# Altium schematic symbol library KeetV2_1.SCHLIB: 76 symbols (part 2 of 2)
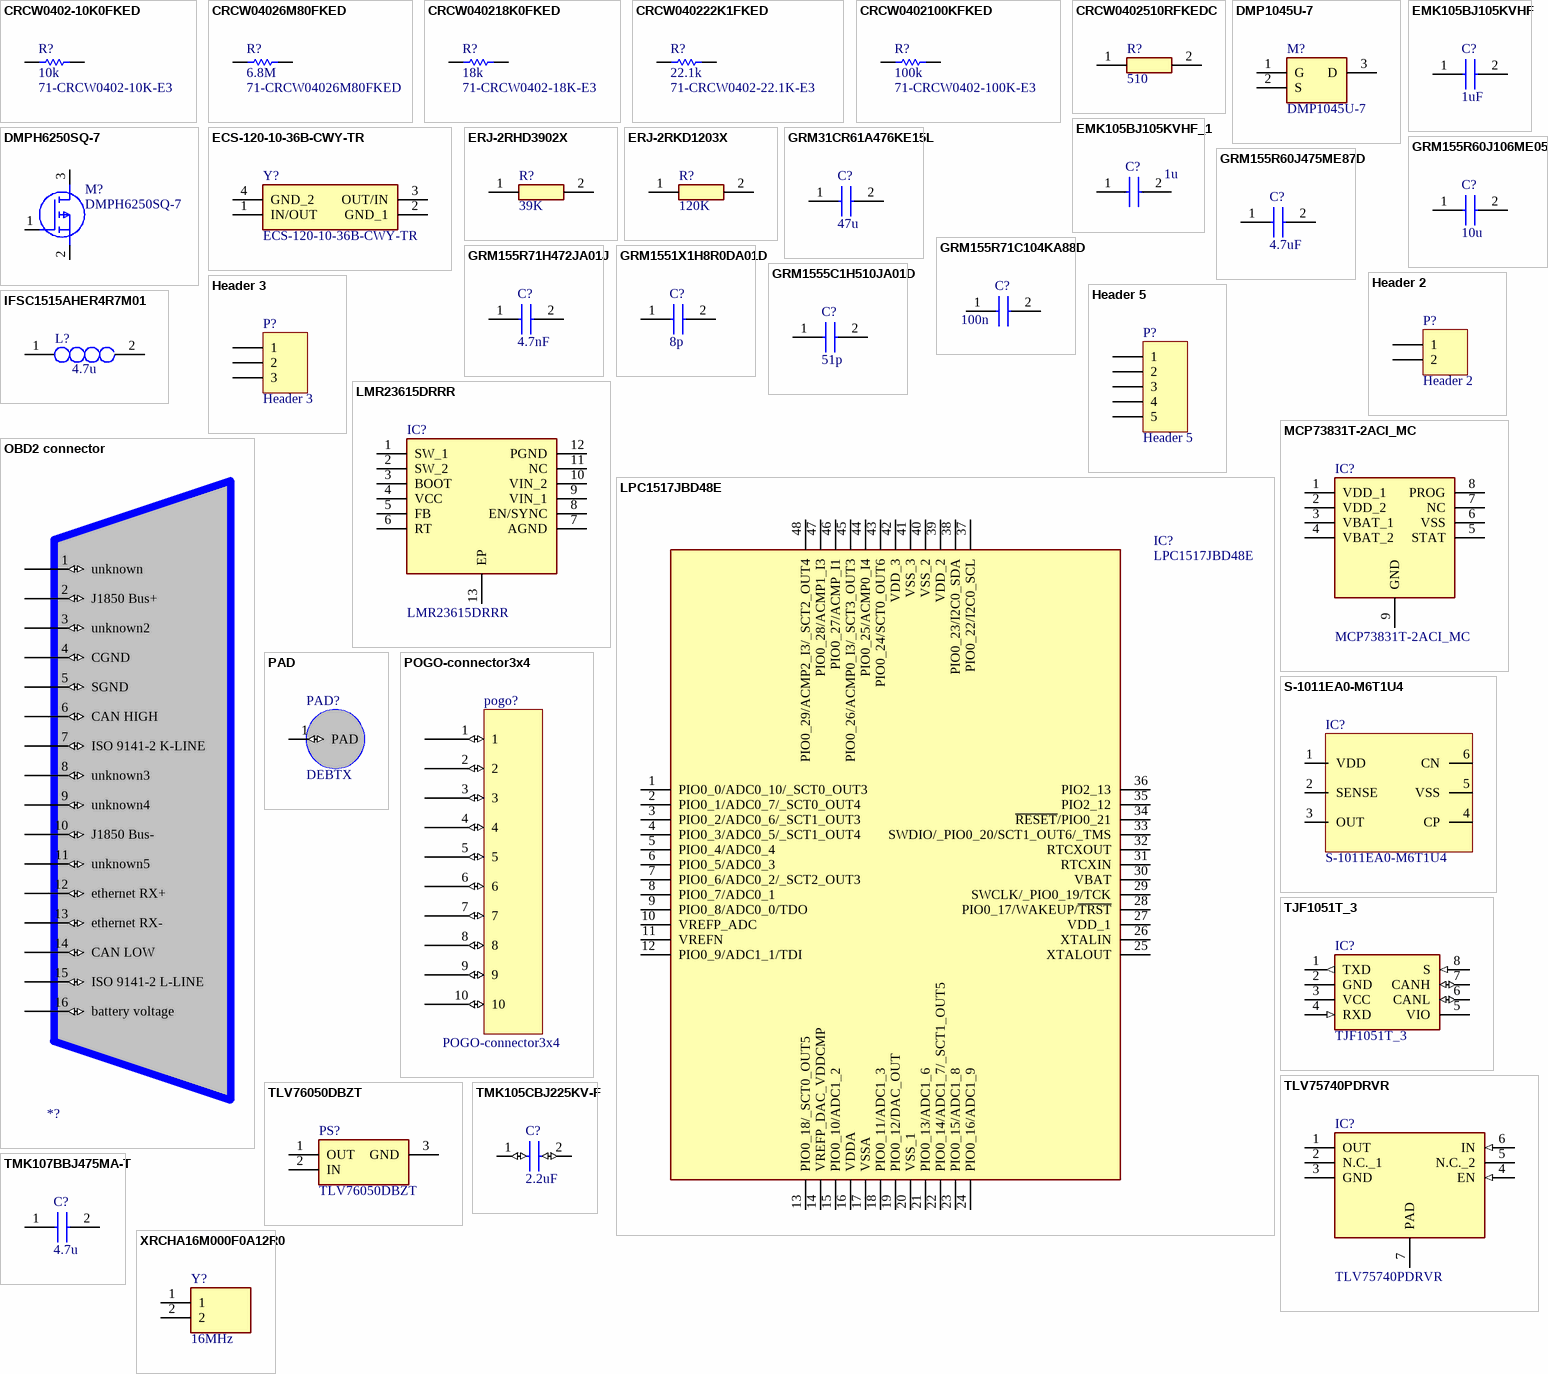
[diagram p2: symbols CRCW0402-10K0FKED to XRCHA16M000F0A12R0]

## CRCW0402100KFKED
designator R?, comment 100k  Supplier Part Number 1: 71-CRCW0402-100K-E3
Res Thick Film 0402 100K Ohm 1% 1/16W 100ppm/C Molded SMD Paper T/R; Manufacturer: Vishay; Manufacturer Part Number: CRCW0402100KFKED; Power Rating: 63mW; Resistance: 100kR; Temperature Coefficient: 100ppm/°C; Voltage Rating: 50V; Supplier 1: Mouser; RoHS: Yes; Category: Chip SMD Resistors; Stock 1: 350931; Pricing 1: 1=0,10000, 10=0,03300, 50=0,03300, 100=0,01400, 1000=0,00600, 10000=0,00500 (USD); Mount: Surface Mount; Case/Package: 0402; Number of Pins: 2; Contact Plating: Tin; Weight: 2.3E-05oz; Case Code (Metric): 1005; Case Code (Imperial): 0402; Size Code: 0402; Min Operating Temperature: -55°C; Max Operating Temperature: 155°C; Tolerance: 1%; Resistor Type: Thick Film; Termination: SMD/SMT; Packaging: Tape and Reel; Package Quantity: 10000; Number of Terminations: 2; Max Power Dissipation: 63mW; Voltage Rating (DC): 50V; Features: Automotive AEC-Q200; Series: CRCW; Technology: THICK FILM; Construction: Rectangular; Resistance Tolerance: 1%; Length: 1mm; Width: 0.02inch; Height: 0.35mm; Depth: 0.5mm; Radiation Hardening: No; Lead Free: Lead Free; RoHS Compliant: Yes; REACH SVHC: Unknown; Military Standard: Not; ComponentLink1URL: https://datasheet.ciiva.com/11810/0900766b80d98824-11810752.pdf?src-supplier=RSComponents; ComponentLink1Description: https://datasheet.ciiva.com/11810/0900766b80d98824-11810752.pdf?src-supplier=RSComponents; ComponentLink2URL: https://datasheet.ciiva.com/26316/fld-crcw-e3-data-en-26316630.pdf?src-supplier=Distrelec; ComponentLink2Description: https://datasheet.ciiva.com/26316/fld-crcw-e3-data-en-26316630.pdf?src-supplier=Distrelec; ComponentLink3URL: https://datasheet.ciiva.com/2463/dcrcwe3-2463064.pdf?src-supplier=Digi-Key; ComponentLink3Description: https://datasheet.ciiva.com/2463/dcrcwe3-2463064.pdf?src-supplier=Digi-Key; ComponentLink4URL: https://datasheet.ciiva.com/2463/dcrcwe3-2463065.pdf?src-supplier=Digi-Key; ComponentLink4Description: https://datasheet.ciiva.com/2463/dcrcwe3-2463065.pdf?src-supplier=Digi-Key; ComponentLink5URL: https://datasheet.ciiva.com/16776/70201119-16776281.pdf?src-supplier=Allied+Electronics; ComponentLink5Description: https://datasheet.ciiva.com/16776/70201119-16776281.pdf?src-supplier=Allied+Electronics; ComponentLink6URL: https://datasheet.ciiva.com/16941/dcrcwe3-16941129.pdf?src-supplier=Avnet+Europe; ComponentLink6Description: https://datasheet.ciiva.com/16941/dcrcwe3-16941129.pdf?src-supplier=Avnet+Europe; ComponentLink7URL: https://datasheet.ciiva.com/2463/dcrcwe3-2463066.pdf?src-supplier=Digi-Key; ComponentLink7Description: https://datasheet.ciiva.com/2463/dcrcwe3-2463066.pdf?src-supplier=Digi-Key; ComponentLink8URL: https://datasheet.ciiva.com/3255/dcrcwe3-3255947.pdf?src-supplier=Avnet; ComponentLink8Description: https://datasheet.ciiva.com/3255/dcrcwe3-3255947.pdf?src-supplier=Avnet; ComponentLink9URL: https://datasheet.ciiva.com/3255/dcrcwe3-3255948.pdf?src-supplier=Avnet; ComponentLink9Description: https://datasheet.ciiva.com/3255/dcrcwe3-3255948.pdf?src-supplier=Avnet; ComponentLink10URL: https://datasheet.ciiva.com/16208/dcrcwe3-16208508.pdf?src-supplier=Future+Electronics; ComponentLink10Description: https://datasheet.ciiva.com/16208/dcrcwe3-16208508.pdf?src-supplier=Future+Electronics; ComponentLink11URL: https://datasheet.ciiva.com/5546/dcrcwe3-109170-5546638.pdf?src-supplier=Mouser; ComponentLink11Description: https://datasheet.ciiva.com/5546/dcrcwe3-109170-5546638.pdf?src-supplier=Mouser; ComponentLink12URL: https://datasheet.ciiva.com/46441/1720486-46441598.pdf?src-supplier=Element14; ComponentLink12Description: https://datasheet.ciiva.com/46441/1720486-46441598.pdf?src-supplier=Element14
footprint RESC1005X04N (Chip Resistor, 0402, 2-Leads, Body 1,00x0,50mm, IPC Medium Density)
pins: 1, 2

## CRCW0402510RFKEDC
designator R?, comment 510
Resistor; Manufacturer_Name: Vishay; Manufacturer_Part_Number: CRCW0402510RFKEDC; Datasheet Link: https://componentsearchengine.com/Datasheets/1/CRCW0402510RFKEDC.pdf; Height: 0.35mm; Mouser Part Number: 71-CRCW0402510RFKEDC; Mouser Price/Stock: https://www.mouser.com/Search/Refine.aspx?Keyword=71-CRCW0402510RFKEDC; Arrow Part Number: CRCW0402510RFKEDC; Arrow Price/Stock: https://www.arrow.com/en/products/crcw0402510rfkedc/vishay
footprint RESC1005X35N
pins: 1, 2

## DMP1045U-7
designator M?
Integrated Circuit; Manufacturer_Name: Diodes Inc.; Datasheet Link: http://docs-emea.rs-online.com/webdocs/1325/0900766b813253b4.pdf; Height: 1.2mm; Manufacturer_Part_Number: DMP1045U-7; Arrow Part Number: DMP1045U-7; Arrow Price/Stock: https://www.arrow.com/en/products/dmp1045u-7/diodes-incorporated; Mouser Part Number: 621-DMP1045U-7; Mouser Price/Stock: https://www.mouser.co.uk/ProductDetail/Diodes-Incorporated/DMP1045U-7?qs=T%2FOtf55vL7eEKnIWhgMvTQ%3D%3D
footprint SOT96P240X120-3N
pins: 1 G, 2 S, 3 D

## DMPH6250SQ-7
designator M?
MOSFET (P-Channel); Manufacturer_Name: Diodes Inc.; Datasheet Link: https://www.diodes.com/assets/Datasheets/DMPH6250SQ.pdf; Height: 1.1mm; Manufacturer_Part_Number: DMPH6250SQ-7; Arrow Part Number: DMPH6250SQ-7; Arrow Price/Stock: https://www.arrow.com/en/products/dmph6250sq-7/diodes-incorporated; Mouser Part Number: 621-DMPH6250SQ-7; Mouser Price/Stock: https://www.mouser.co.uk/ProductDetail/Diodes-Incorporated/DMPH6250SQ-7?qs=%252BEew9%252B0nqrDz2S8tY0%252BBKg%3D%3D
footprint SOT96P240X110-3N
pins: 1 G, 2 S, 3 D

## ECS-120-10-36B-CWY-TR
designator Y?
Crystal or Oscillator; Manufacturer_Name: ECS; Datasheet Link: https://componentsearchengine.com/Datasheets/1/ECS-120-10-36B-CWY-TR.pdf; Height: 0.65mm; Manufacturer_Part_Number: ECS-120-10-36B-CWY-TR; Mouser Part Number: 520-120-10-36B-CWYT; Mouser Price/Stock: https://www.mouser.co.uk/ProductDetail/ECS/ECS-120-10-36B-CWY-TR/?qs=l4Gc20tDgJKvLBYLYNYQdg%3D%3D
footprint ECS1201036BCWYTR
pins: 1 IN/OUT, 2 GND_1, 3 OUT/IN, 4 GND_2

## EMK105BJ105KVHF
designator C?, comment 1uF
Capacitor X5R 10% 0402; Manufacturer_Name: TAIYO YUDEN; Manufacturer_Part_Number: EMK105BJ105KVHF; Datasheet Link: https://componentsearchengine.com/Datasheets/2/EMK105BJ105KVHF.pdf; Height: 0.55mm; Mouser Part Number: 963-EMK105BJ105KVHF; Mouser Price/Stock: https://www.mouser.co.uk/ProductDetail/Taiyo-Yuden/EMK105BJ105KVHF?qs=qPaGMJUC%252BSsQbatR4qRfmg%3D%3D
footprint CAPC1005X55N
pins: 1, 2

## EMK105BJ105KVHF_1
designator C?, comment 1u
Capacitor; Manufacturer_Name: TAIYO YUDEN; Manufacturer_Part_Number: EMK105BJ105KVHF; Datasheet Link: https://componentsearchengine.com/Datasheets/2/EMK105BJ105KVHF.pdf; Height: 0.55mm; Mouser Part Number: 963-EMK105BJ105KVHF; Mouser Price/Stock: https://www.mouser.co.uk/ProductDetail/Taiyo-Yuden/EMK105BJ105KVHF?qs=qPaGMJUC%252BSsQbatR4qRfmg%3D%3D
footprint CAPC1005X55N
pins: 1, 2

## ERJ-2RHD3902X
designator R?, comment 39K
Resistor; Manufacturer_Name: Panasonic; Manufacturer_Part_Number: ERJ-2RHD3902X; Datasheet Link: http://docs-europe.electrocomponents.com/webdocs/13ba/0900766b813ba21b.pdf; Height: 0.4mm; Mouser Part Number: 667-ERJ-2RHD3902X; Mouser Price/Stock: https://www.mouser.com/Search/Refine.aspx?Keyword=667-ERJ-2RHD3902X
footprint RESC1005X40N
pins: 1, 2

## ERJ-2RKD1203X
designator R?, comment 120K
Resistor; Manufacturer_Name: Panasonic; Manufacturer_Part_Number: ERJ-2RKD1203X; Datasheet Link: https://industrial.panasonic.com/cdbs/www-data/pdf/RDA0000/AOA0000C86.pdf; Height: 0.4mm
footprint RESC1005X40N
pins: 1, 2

## GRM31CR61A476KE15L
designator C?, comment 47u
Capacitor; Manufacturer_Name: Murata Electronics; Manufacturer_Part_Number: GRM31CR61A476KE15L; Datasheet Link: http://www.murata.com/~/media/webrenewal/support/library/catalog/products/capacitor/mlcc/c02e.pdf; Height: 1.8mm; Arrow Part Number: GRM31CR61A476KE15L; Arrow Price/Stock: https://www.arrow.com/en/products/grm31cr61a476ke15l/murata-manufacturing; Mouser Part Number: 81-GRM31CR61A476KE5L; Mouser Price/Stock: https://www.mouser.co.uk/ProductDetail/Murata-Electronics/GRM31CR61A476KE15L?qs=18WYLvqSxEpYiQEknw8A%2Fg%3D%3D
footprint CAPC3216X180N
pins: 1, 2

## GRM155R60J106ME05J
designator C?, comment 10u
Capacitor; Manufacturer_Name: Murata Electronics; Manufacturer_Part_Number: GRM155R60J106ME05J; Datasheet Link: https://psearch.en.murata.com/capacitor/product/GRM155R60J106ME05%23.html; Height: 0.55mm; Mouser Part Number: 81-GRM155R60J106ME05; Mouser Price/Stock: https://www.mouser.co.uk/ProductDetail/Murata-Electronics/GRM155R60J106ME05J?qs=d0WKAl%252BL4KZLYokHNDRa%252Bw%3D%3D
footprint CAPC1005X55N
pins: 1, 2

## GRM155R60J475ME87D
designator C?, comment 4.7uF
Capacitor; Manufacturer_Name: Murata Electronics; Manufacturer_Part_Number: GRM155R60J475ME87D; Datasheet Link: http://www.murata.com/~/media/webrenewal/support/library/catalog/products/capacitor/mlcc/c02e.pdf; Height: 0.55mm; Arrow Part Number: GRM155R60J475ME87D; Arrow Price/Stock: https://www.arrow.com/en/products/grm155r60j475me87d/murata-manufacturing; Mouser Part Number: 81-GRM155R60J475ME8D; Mouser Price/Stock: https://www.mouser.co.uk/ProductDetail/Murata-Electronics/GRM155R60J475ME87D/?qs=pTGEtN%252BMLlBnU9jM8bPB0Q%3D%3D
footprint CAPC1005X55N
pins: 1, 2

## GRM155R71C104KA88D
designator C?, comment 100n
Capacitor; Manufacturer_Name: Murata Electronics; Manufacturer_Part_Number: GRM155R71C104KA88D; Datasheet Link: http://www.murata.com/~/media/webrenewal/support/library/catalog/products/capacitor/mlcc/c02e.pdf; Height: 0.55mm; Arrow Part Number: GRM155R71C104KA88D; Arrow Price/Stock: https://www.arrow.com/en/products/grm155r71c104ka88d/murata-manufacturing; Mouser Part Number: N/A
footprint CAPC1005X55N
pins: 1, 2

## GRM155R71H472JA01J
designator C?, comment 4.7nF
Capacitor; Manufacturer_Name: Murata Electronics; Manufacturer_Part_Number: GRM155R71H472JA01J; Datasheet Link: http://www.murata.com/~/media/webrenewal/support/library/catalog/products/capacitor/mlcc/c02e.pdf; Height: 0.55mm; Mouser Part Number: 81-GRM155R71H472JA1J; Mouser Price/Stock: https://www.mouser.com/Search/Refine.aspx?Keyword=81-GRM155R71H472JA1J
footprint CAPC1005X55N
pins: 1, 2

## GRM1551X1H8R0DA01D
designator C?, comment 8p
Capacitor; Manufacturer_Name: Murata Electronics; Manufacturer_Part_Number: GRM1551X1H8R0DA01D; Datasheet Link: http://www.murata.com/~/media/webrenewal/support/library/catalog/products/capacitor/mlcc/c02e.pdf; Height: 0.55mm
footprint CAPC1005X55N
pins: 1, 2

## GRM1555C1H510JA01D
designator C?, comment 51p
Capacitor; Manufacturer_Name: Murata Electronics; Manufacturer_Part_Number: GRM1555C1H510JA01D; Datasheet Link: http://www.murata.com/~/media/webrenewal/support/library/catalog/products/capacitor/mlcc/c02e.pdf; Height: 0.55mm; Mouser Part Number: 81-GRM1555C1H510JA1D; Mouser Price/Stock: http://www.mouser.com/Search/ProductDetail.aspx?qs=ouTquLLW2S53SYZ4Zli0Dw%3d%3d
footprint CAPC1005X55N
pins: 1, 2

## Header 2
designator P?
Header, 2-Pin; LatestRevisionDate: 17-Jul-2002; LatestRevisionNote: Re-released for DXP Platform.; Publisher: Altium Limited
footprint HDR1X2 (Connector; Header; 2 Position)
signal-integrity model Connector
pins: 1, 2

## Header 3
designator P?
Header, 3-Pin; LatestRevisionDate: 17-Jul-2002; LatestRevisionNote: Re-released for DXP Platform.; Publisher: Altium Limited
footprint HDR1X3 (Connector; Header; 3 Position)
signal-integrity model Connector
pins: 1, 2, 3

## Header 5
designator P?
Header, 5-Pin; LatestRevisionDate: 17-Jul-2002; LatestRevisionNote: Re-released for DXP Platform.; Publisher: Altium Limited
footprint HDR1X5 (Connector; Header; 5 Position)
signal-integrity model Connector
pins: 1, 2, 3, 4, 5

## IFSC1515AHER4R7M01
designator L?, comment 4.7u
Inductor; Manufacturer_Name: Vishay; Manufacturer_Part_Number: IFSC1515AHER4R7M01; Datasheet Link: https://www.vishay.com/docs/34295/sc15ah01.pdf; Height: 1.9mm; Arrow Part Number: IFSC1515AHER4R7M01; Arrow Price/Stock: https://www.arrow.com/en/products/ifsc1515aher4r7m01/vishay; Mouser Part Number: 70-IFSC1515AHER4R7M0; Mouser Price/Stock: https://www.mouser.co.uk/ProductDetail/Vishay-Dale/IFSC1515AHER4R7M01?qs=InciI0EUQ9bFD1zWABQODQ%3D%3D
footprint INDPM4040X190N
pins: 1, 2

## LMR23615DRRR
designator IC?
Integrated Circuit; Manufacturer_Name: Texas Instruments; Datasheet Link: http://www.ti.com/lit/ds/symlink/lmr23615.pdf; Height: 0.8mm; Manufacturer_Part_Number: LMR23615DRRR; Arrow Part Number: LMR23615DRRR; Arrow Price/Stock: https://www.arrow.com/en/products/lmr23615drrr/texas-instruments; Mouser Part Number: 595-LMR23615DRRR; Mouser Price/Stock: https://www.mouser.co.uk/ProductDetail/Texas-Instruments/LMR23615DRRR?qs=fAHHVMwC%252BbjN885utBLFRg%3D%3D
footprint SON50P300X300X80-13N-D
pins: 1 SW_1, 2 SW_2, 3 BOOT, 4 VCC, 5 FB, 6 RT, 7 AGND, 8 EN/SYNC, 9 VIN_1, 10 VIN_2, 11 NC, 12 PGND, 13 EP

## LPC1517JBD48E
designator IC?
Integrated Circuit; Manufacturer_Name: NXP; Datasheet Link: http://www.nxp.com/docs/en/data-sheet/LPC15XX.pdf; Height: 1.6mm; Manufacturer_Part_Number: LPC1517JBD48E; Mouser Part Number: 771-LPC1517JBD48E; Mouser Price/Stock: https://www.mouser.co.uk/ProductDetail/NXP-Semiconductors/LPC1517JBD48E?qs=6JAMGB%252BEdkxpZtMKDH%2F6qg%3D%3D; Arrow Part Number: LPC1517JBD48E; Arrow Price/Stock: https://www.arrow.com/en/products/lpc1517jbd48e/nxp-semiconductors
footprint QFP50P900X900X160-48N
pins: 1 PIO0_0/ADC0_10/_SCT0_OUT3, 2 PIO0_1/ADC0_7/_SCT0_OUT4, 3 PIO0_2/ADC0_6/_SCT1_OUT3, 4 PIO0_3/ADC0_5/_SCT1_OUT4, 5 PIO0_4/ADC0_4, 6 PIO0_5/ADC0_3, 7 PIO0_6/ADC0_2/_SCT2_OUT3, 8 PIO0_7/ADC0_1, 9 PIO0_8/ADC0_0/TDO, 10 VREFP_ADC, 11 VREFN, 12 PIO0_9/ADC1_1/TDI, 13 PIO0_18/_SCT0_OUT5, 14 VREFP_DAC_VDDCMP, 15 PIO0_10/ADC1_2, 16 VDDA, 17 VSSA, 18 PIO0_11/ADC1_3, 19 PIO0_12/DAC_OUT, 20 VSS_1, 21 PIO0_13/ADC1_6, 22 PIO0_14/ADC1_7/_SCT1_OUT5, 23 PIO0_15/ADC1_8, 24 PIO0_16/ADC1_9, 25 XTALOUT, 26 XTALIN, 27 VDD_1, 28 PIO0_17/WAKEUP/~{TRST}, 29 SWCLK/_PIO0_19/TCK, 30 VBAT, 31 RTCXIN, 32 RTCXOUT, 33 SWDIO/_PIO0_20/SCT1_OUT6/_TMS, 34 ~{RESET}/PIO0_21, 35 PIO2_12, 36 PIO2_13, 37 PIO0_22/I2C0_SCL, 38 PIO0_23/I2C0_SDA, 39 VDD_2, 40 VSS_2, 41 VSS_3, 42 VDD_3, 43 PIO0_24/SCT0_OUT6, 44 PIO0_25/ACMP0_I4, 45 PIO0_26/ACMP0_I3/_SCT3_OUT3, 46 PIO0_27/ACMP_I1, 47 PIO0_28/ACMP1_I3, 48 PIO0_29/ACMP2_I3/_SCT2_OUT4

## MCP73831T-2ACI_MC
designator IC?
Integrated Circuit; Manufacturer_Name: Microchip; Manufacturer_Part_Number: MCP73831T-2ACI/MC; Datasheet Link: http://ww1.microchip.com/downloads/en/DeviceDoc/20001984g.pdf; Height: 1mm; Arrow Part Number: MCP73831T-2ACI/MC; Arrow Price/Stock: https://www.arrow.com/en/products/mcp73831t-2acimc/microchip-technology; Mouser Part Number: 579-MCP73831T-2ACIMC; Mouser Price/Stock: https://www.mouser.co.uk/ProductDetail/Microchip-Technology/MCP73831T-2ACI-MC?qs=yUQqVecv4quJ3ICqm%2FGZxw%3D%3D
footprint SON50P300X200X100-9N-D
pins: 1 VDD_1, 2 VDD_2, 3 VBAT_1, 4 VBAT_2, 5 STAT, 6 VSS, 7 NC, 8 PROG, 9 GND

## OBD2 connector
designator *?  (value not drawn)
footprint OBD2
pins: 1 unknown (io), 2 J1850 Bus+ (io), 3 unknown2 (io), 4 CGND (io), 5 SGND (io), 6 CAN HIGH (io), 7 ISO 9141-2 K-LINE (io), 8 unknown3 (io), 9 unknown4 (io), 10 J1850 Bus- (io), 11 unknown5 (io), 12 ethernet RX+ (io), 13 ethernet RX- (io), 14 CAN LOW (io), 15 ISO 9141-2 L-LINE (io), 16 battery voltage (io)

## PAD
designator PAD?, comment DEBTX
just a pad
footprint PAD
pins: 1 PAD (io)

## POGO-connector3x4
designator pogo?
pad layout for external pogo connector
footprint POGO_connector_3x4
pins: 1 (io), 2 (io), 3 (io), 4 (io), 5 (io), 6 (io), 7 (io), 8 (io), 9 (io), 10 (io)

## S-1011EA0-M6T1U4
designator IC?
Voltage detector
footprint SOT95P245X110-6N (SOT23, 6-Leads, Body 2,90x2,45mm, Pitch 0,95mm, IPC Medium Density)
pins: 1 VDD, 2 SENSE, 3 OUT, 4 CP, 5 VSS, 6 CN

## TJF1051T_3
designator IC?
Integrated Circuit; Manufacturer_Name: Nexperia; Manufacturer_Part_Number: TJF1051T/3; Datasheet Link: https://www.nxp.com/docs/en/data-sheet/TJF1051.pdf; Height: 1.75mm; Mouser Part Number: N/A; Mouser Price/Stock: https://www.mouser.com/Search/Refine.aspx?Keyword=N%2FA
footprint SOIC127P600X175-8N
pins: 1 TXD (out), 2 GND (power), 3 VCC (power), 4 RXD (in), 5 VIO, 6 CANL (io), 7 CANH (io), 8 S (in)

## TLV75740PDRVR
designator IC?
Power Supply; Manufacturer_Name: Texas Instruments; Datasheet Link: http://www.ti.com/lit/gpn/tlv757p; Height: 0.8mm; Manufacturer_Part_Number: TLV75740PDRVR; Arrow Part Number: TLV75740PDRVR; Arrow Price/Stock: https://www.arrow.com/en/products/tlv75740pdrvr/texas-instruments; Mouser Part Number: 595-TLV75740PDRVR; Mouser Price/Stock: https://www.mouser.co.uk/ProductDetail/Texas-Instruments/TLV75740PDRVR?qs=W0yvOO0ixfHCQhbebwDO0Q%3D%3D
footprint SON65P200X200X80-7N-D
pins: 1 OUT (power), 2 N.C._1 (power), 3 GND (power), 4 EN (in), 5 N.C._2 (power), 6 IN (in), 7 PAD (power)

## TLV76050DBZT
designator PS?
Power Supply; Manufacturer_Name: Texas Instruments; Datasheet Link: https://componentsearchengine.com/Datasheets/2/TLV76050DBZT.pdf; Height: 1.12mm; Manufacturer_Part_Number: TLV76050DBZT; Mouser Part Number: 595-TLV76050DBZT; Mouser Price/Stock: https://www.mouser.co.uk/ProductDetail/Texas-Instruments/TLV76050DBZT?qs=HXFqYaX1Q2zHa0qA%252Bl%2FNKg%3D%3D; Arrow Part Number: TLV76050DBZT; Arrow Price/Stock: https://www.arrow.com/en/products/tlv76050dbzt/texas-instruments
footprint SOT95P237X112-3N
pins: 1 OUT (power), 2 IN (power), 3 GND (power)

## TMK105CBJ225KV-F
designator C?, comment 2.2uF
Capacitor X5R 10% 0402; Manufacturer_Name: TAIYO YUDEN; Manufacturer_Part_Number: TMK105CBJ225KV-F; Datasheet Link: https://mouser.componentsearchengine.com/Datasheets/1/TMK105CBJ225KV-F.pdf; Height: 0.55mm; Mouser Part Number: 963-TMK105CBJ225KV-F; Mouser Price/Stock: https://www.mouser.co.uk/ProductDetail/Taiyo-Yuden/TMK105CBJ225KV-F?qs=lkMpTOwszhcv20NXOV0AGQ%3D%3D
footprint CAPC1005X55N
pins: 1 (io), 2 (io)

## TMK107BBJ475MA-T
designator C?, comment 4.7u
Capacitor; Manufacturer_Name: TAIYO YUDEN; Manufacturer_Part_Number: TMK107BBJ475MA-T; Datasheet Link: https://componentsearchengine.com/Datasheets/1/TMK107BBJ475MA-T.pdf; Height: 1mm; Mouser Part Number: 963-TMK107BBJ475MA-T; Mouser Price/Stock: https://www.mouser.co.uk/ProductDetail/Taiyo-Yuden/TMK107BBJ475MA-T/?qs=lkMpTOwszhelZanMHR3qIw%3D%3D
footprint CAPC1608X100N
pins: 1, 2

## XRCHA16M000F0A12R0
designator Y?, comment 16MHz
Crystal or Oscillator; Manufacturer_Name: Murata Electronics; Manufacturer_Part_Number: XRCHA16M000F0A12R0; Datasheet Link: https://www.murata.com/~/media/webrenewal/products/timingdevice/crystalu/flyers/vppt-hcrj078-d.ashx?la=en-us; Height: 0.8mm; Mouser Part Number: 81-XRCHA16M000F0A120; Mouser Price/Stock: https://www.mouser.co.uk/ProductDetail/Murata-Electronics/XRCHA16M000F0A12R0?qs=QzBtWTOodeVgxex%2F1hG8AA%3D%3D; Arrow Part Number: XRCHA16M000F0A12R0; Arrow Price/Stock: https://www.arrow.com/en/products/xrcha16m000f0a12r0/murata-manufacturing
footprint XRCHA16M000F0A12R0
pins: 1, 2